# Altium footprint library button.PcbLib: 1 footprints
Each footprint in its own frame and in the unit in brackets; x right, y up, seen from the top. Pads: shape width x height; smd on the part's side, far side on the other; paste and mask are expansions set on the pad; w line width, h text height; cw(c..) or ccw(c..) is an arc to the next point about the centre after c.
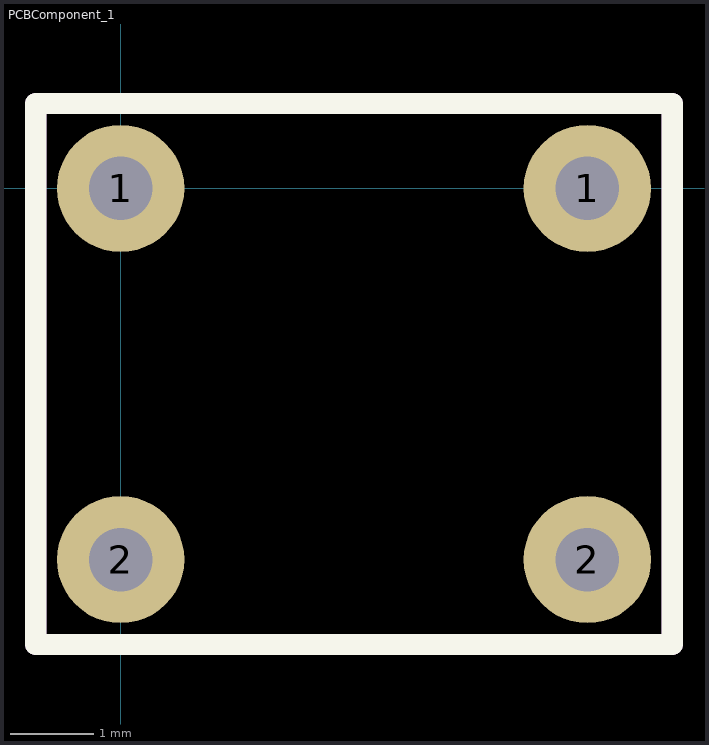
[diagram p0: the footprint, top view; thin cyan lines are the x and y axes]

## PCBComponent_1 [mil]
pads (4):
  round 60 hole 30: 1(0,0) 1(220,0) 2(0,-175) 2(220,-175)
Top Overlay:
  lines w10: -40,-215 -40,40 260,40 260,-215 -40,-215
Mechanical 1:
  lines w10: -40,-215 260,-215 260,40 -40,40 -40,-215